# Altium footprint library TE-5747840-6.PcbLib: 1 footprints
Each footprint in its own frame and in the unit in brackets; x right, y up, seen from the top. Pads: shape width x height; smd on the part's side, far side on the other; paste and mask are expansions set on the pad; w line width, h text height; cw(c..) or ccw(c..) is an arc to the next point about the centre after c.
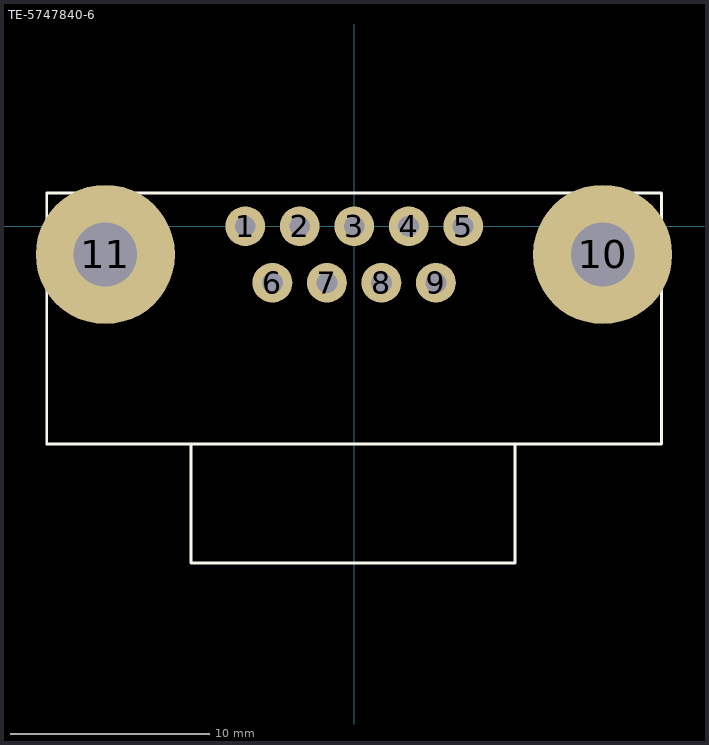
[diagram p0: the footprint, top view; thin cyan lines are the x and y axes]

## TE-5747840-6 [mm]
pads (11):
  round 2 hole 1.05: 1(-5.48,0) 2(-2.74,0) 3(0,0) 4(2.74,0) 5(5.48,0) 6(-4.11,-2.84) 7(-1.37,-2.84) 8(1.37,-2.84) 9(4.11,-2.84)
  round 7 hole 3.2: 10(12.49,-1.42) 11(-12.51,-1.42)
Top Overlay:
  lines w0.15: -8.21,-10.94 -8.21,-16.94 8.09,-16.94 8.09,-10.94 ; -15.46,-10.94 15.46,-10.94 15.46,1.68 -15.46,1.68 -15.46,-10.94